# EAGLE library part MIC4680 (library micrel)
1A 200kHz SuperSwitcherTM Buck Regulator The MIC4680 SuperSwitcherTM is an easy-to-use fixed or adjustable output voltage step-down (buck) switch-mode voltage regulator. The 200kHz MIC4680 achieves up to 1.3A of continuous output current over a wide input range in a 8-pin SOIC.
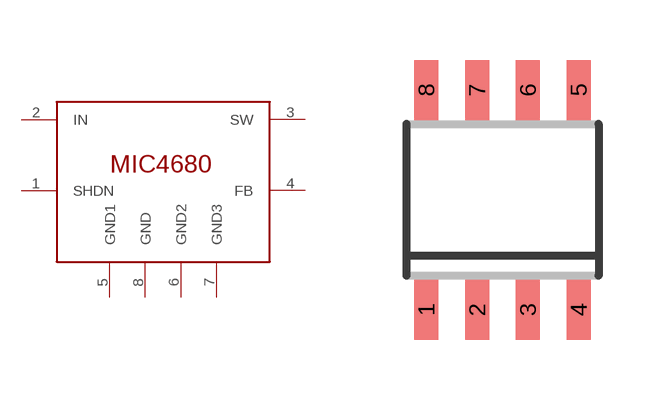
[diagram p0: symbol with the pads of SOIC8; footprint SOIC8]

Designator prefix -

## MIC4680  [SOIC8]
1  SHDN
2  IN
3  SW
4  FB
5  GND1
6  GND2
7  GND3
8  GND

## Footprint SOIC8 (pad centres in mm)
SOIC-8 CASE 751-07 Source: http://www.onsemi.com/pub/Collateral/MC34164-D.PDF D (R-PDSO-G8)PLATIC SMALL-OUTLINE PACKAGE Source: http://focus.ti.com/lit/ds/symlink/tlc27l2.pdf
smd 0.6 x 1.5: 1 -1.905,-2.75; 2 -0.635,-2.75; 3 0.635,-2.75; 4 1.905,-2.75; 5 1.905,2.75; 6 0.635,2.75; 7 -0.635,2.75; 8 -1.905,2.75